# EAGLE library part FT232RQ (library IC)
Future Technology Devices International Ltd.FT232R USB UART IC http://www.ftdichip.com/Support/Documents/DataSheets/ICs/DS_FT232R.pdf
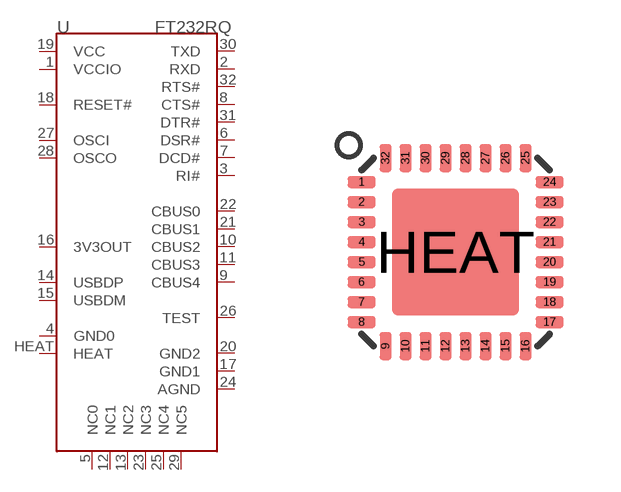
[diagram p33: symbol with the pads of MLF32X-W/HEAT; footprint MLF32X-W/HEAT]

Designator prefix U

## FT232RQ-MLF32  [MLF32X-W/HEAT]
1  VCCIO
2  RXD
3  RI#
4  GND0
5  NC0
6  DSR#
7  DCD#
8  CTS#
9  CBUS4
10  CBUS2
11  CBUS3
12  NC1
13  NC2
14  USBDP
15  USBDM
16  3V3OUT
17  GND1
18  RESET#
19  VCC
20  GND2
21  CBUS1
22  CBUS0
23  NC3
24  AGND
25  NC4
26  TEST
27  OSCI
28  OSCO
29  NC5
30  TXD
31  DTR#
32  RTS#
HEAT  HEAT

## Footprint MLF32X-W/HEAT (pad centres in mm)
smd 0.7 x 0.3: 1 -2.35,1.75; 2 -2.35,1.25; 3 -2.35,0.75; 4 -2.35,0.25; 5 -2.35,-0.25; 6 -2.35,-0.75; 7 -2.35,-1.25; 8 -2.35,-1.75; 17 2.35,-1.75; 18 2.35,-1.25; 19 2.35,-0.75; 20 2.35,-0.25; 21 2.35,0.25; 22 2.35,0.75; 23 2.35,1.25; 24 2.35,1.75
smd 0.3 x 0.7: 9 -1.75,-2.35; 10 -1.25,-2.35; 11 -0.75,-2.35; 12 -0.25,-2.35; 13 0.25,-2.35; 14 0.75,-2.35; 15 1.25,-2.35; 16 1.75,-2.35; 25 1.75,2.35; 26 1.25,2.35; 27 0.75,2.35; 28 0.25,2.35; 29 -0.25,2.35; 30 -0.75,2.35; 31 -1.25,2.35; 32 -1.75,2.35
smd 3.175 x 3.175: HEAT 0,0